# Altium footprint library DIOM5336X244N.PcbLib: 1 footprints
Each footprint in its own frame and in the unit in brackets; x right, y up, seen from the top. Pads: shape width x height; smd on the part's side, far side on the other; paste and mask are expansions set on the pad; w line width, h text height; cw(c..) or ccw(c..) is an arc to the next point about the centre after c.
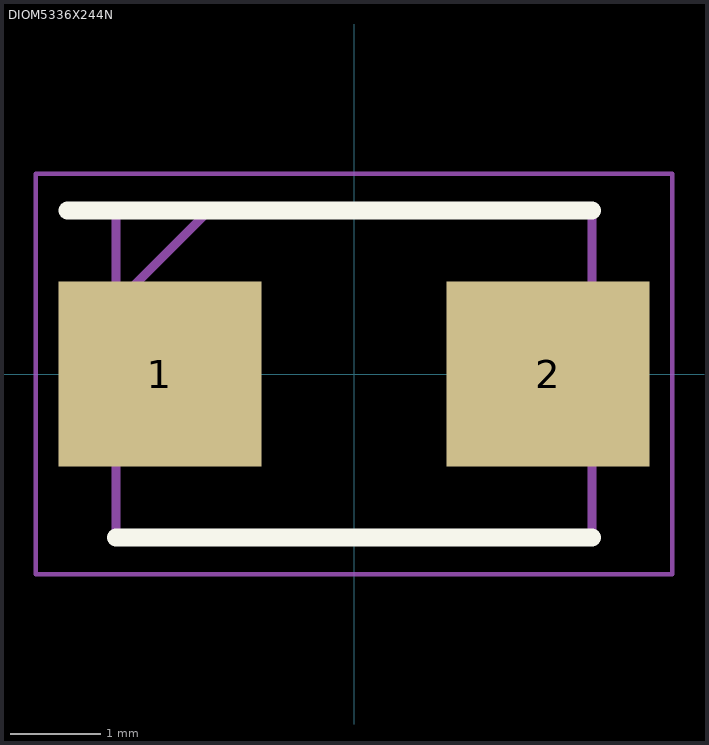
[diagram p0: the footprint, top view; thin cyan lines are the x and y axes]

## DIOM5336X244N [mm]
pads (2):
  rect 2.25x2.05 smd: 1(-2.15,0) 2(2.15,0)
L26-Silk Screen Top (Multiple PADS layers...):
  lines w0.2: -3.175,1.81 2.635,1.81 ; -2.635,-1.81 2.635,-1.81
L15 (Multiple PADS layers...):
  lines w0.1: -2.635,0.785 -1.61,1.81 ; -2.635,-1.81 -2.635,1.81 2.635,1.81 2.635,-1.81 -2.635,-1.81
L20:
  lines w0.05: -3.525,-2.22 -3.525,2.22 3.525,2.22 3.525,-2.22 -3.525,-2.22
3D body "SS54B.stp": height 2.44, standoff 0, extent -2.635,-1.81 2.635,1.81